# Altium footprint library CB3.PcbLib: 1 footprints
Each footprint in its own frame and in the unit in brackets; x right, y up, seen from the top. Pads: shape width x height; smd on the part's side, far side on the other; paste and mask are expansions set on the pad; w line width, h text height; cw(c..) or ccw(c..) is an arc to the next point about the centre after c.
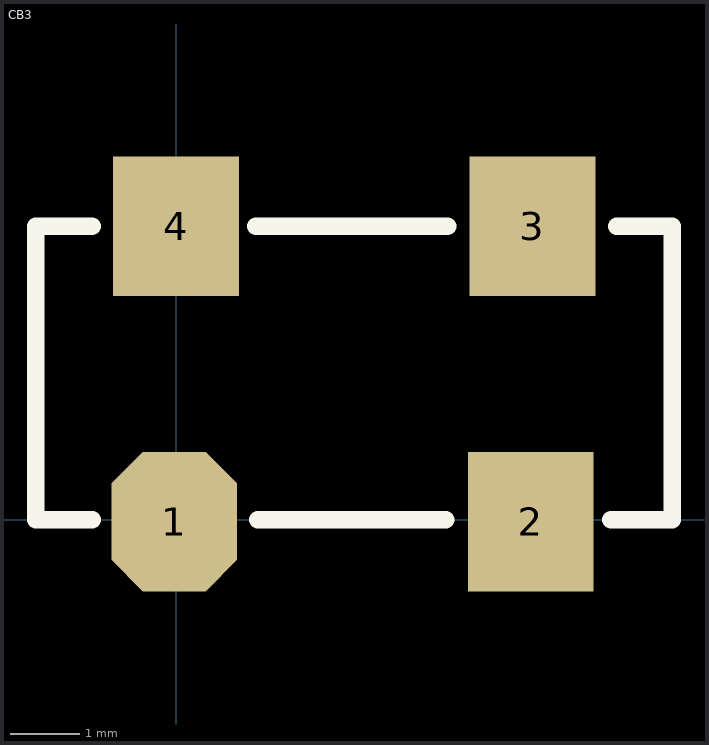
[diagram p0: the footprint, top view; thin cyan lines are the x and y axes]

## CB3 [mm]
height 1.524
pads (4):
  oct 1.8x2 smd: 1(-0.025,-0.025)
  rect 1.8x2 smd: 2(5.075,-0.025) 3(5.1,4.2) 4(0,4.2)
Top Overlay:
  lines w0.254: -1.203,4.2 -2.007,4.2 -2.007,0 -1.2,0 ; 1.143,4.2 3.886,4.2 ; 1.168,0 3.861,0 ; 6.223,0 7.1,0 7.1,4.2 6.308,4.2
  text "." at -1.854,-0.686 h1.27
Mechanical 4:
  text ".100" at 0,0 h0.03